# Altium footprint library Baterry.PcbLib: 4 footprints
Each footprint in its own frame and in the unit in brackets; x right, y up, seen from the top. Pads: shape width x height; smd on the part's side, far side on the other; paste and mask are expansions set on the pad; w line width, h text height; cw(c..) or ccw(c..) is an arc to the next point about the centre after c.
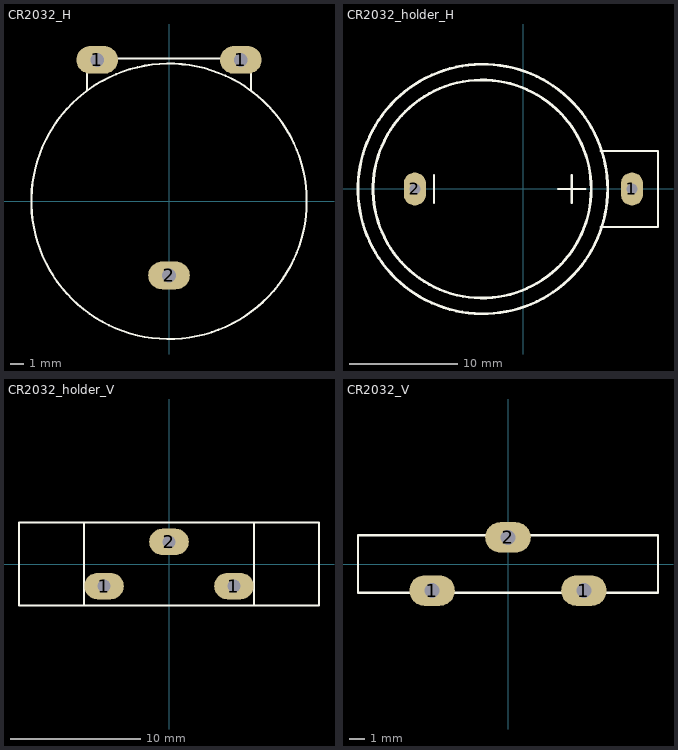
[diagram p0: the footprints below, top view; thin cyan lines are the x and y axes]

## CR2032_H [mil]
height 374.02
pads (3):
  oval 120x80 hole 40: 1(-206.69,407.48) 1(206.69,407.48) 2(0,-213.58)
Top Overlay:
  circle w6: c0,0 r396.65
  lines w6: -236.22,318.9 -236.22,377.95 ; -165.35,411.42 165.35,411.42 ; 236.22,318.9 236.22,377.95
3D body: height 212.6, standoff -147.64, extent -396.45,-396.45 396.46,411.03

## CR2032_holder_H [mil]
height 374.02
pads (2):
  oval 80x120 hole 40: 1(393.7,0) 2(-393.7,0)
Top Overlay:
  circle w10: c-147.11,0 r452.76
  circle w10: c-149.61,0 r395.67
  lines w8: -324.61,-50 -324.61,50 ; 125.39,0 225.39,0 ; 175.39,-50 175.39,50 ; 280.39,-137.8 488.19,-137.8 488.19,137.8 280.39,137.8
3D body: height 341.34, standoff -137.8, extent -582.75,-452.75 497.22,452.76

## CR2032_holder_V [mil]
height 374.02
pads (3):
  oval 120x80 hole 40: 1(-196.85,-66.93) 1(196.85,-66.93) 2(0,66.93)
Top Overlay:
  lines w6: -257.87,-125.98 257.87,-125.98 ; -257.87,-125.98 -257.87,125.98 ; -257.87,-125.98 -454.72,-125.98 -454.72,125.98 -257.87,125.98 ; -257.87,125.98 257.87,125.98 ; 257.87,-125.98 257.87,125.98 ; 257.87,-125.98 454.72,-125.98 454.72,125.98 257.87,125.98
3D body: height 718.5, standoff -118.11, extent -454.72,-125.98 454.65,125.99

## CR2032_V [mil]
height 374.02
pads (3):
  oval 120x80 hole 40: 1(-199.8,-69.88) 1(199.8,-69.88) 2(0,69.88)
Top Overlay:
  lines w6: -394.69,74.8 -394.69,-75.79 -245.08,-75.79 ; -394.69,75.79 -45.28,75.79 ; -154.53,-75.79 154.53,-75.79 ; 45.28,75.79 394.69,75.79 ; 245.08,-75.79 394.69,-75.79 394.69,74.8
3D body: height 827.07, standoff -157.48, extent -394,-75.61 394,74.31